# Altium footprint library Package_CSP.PcbLib: 178 footprints (part 4 of 12)
Each footprint in its own frame and in the unit in brackets; x right, y up, seen from the top. Pads: shape width x height; smd on the part's side, far side on the other; paste and mask are expansions set on the pad; w line width, h text height; cw(c..) or ccw(c..) is an arc to the next point about the centre after c.
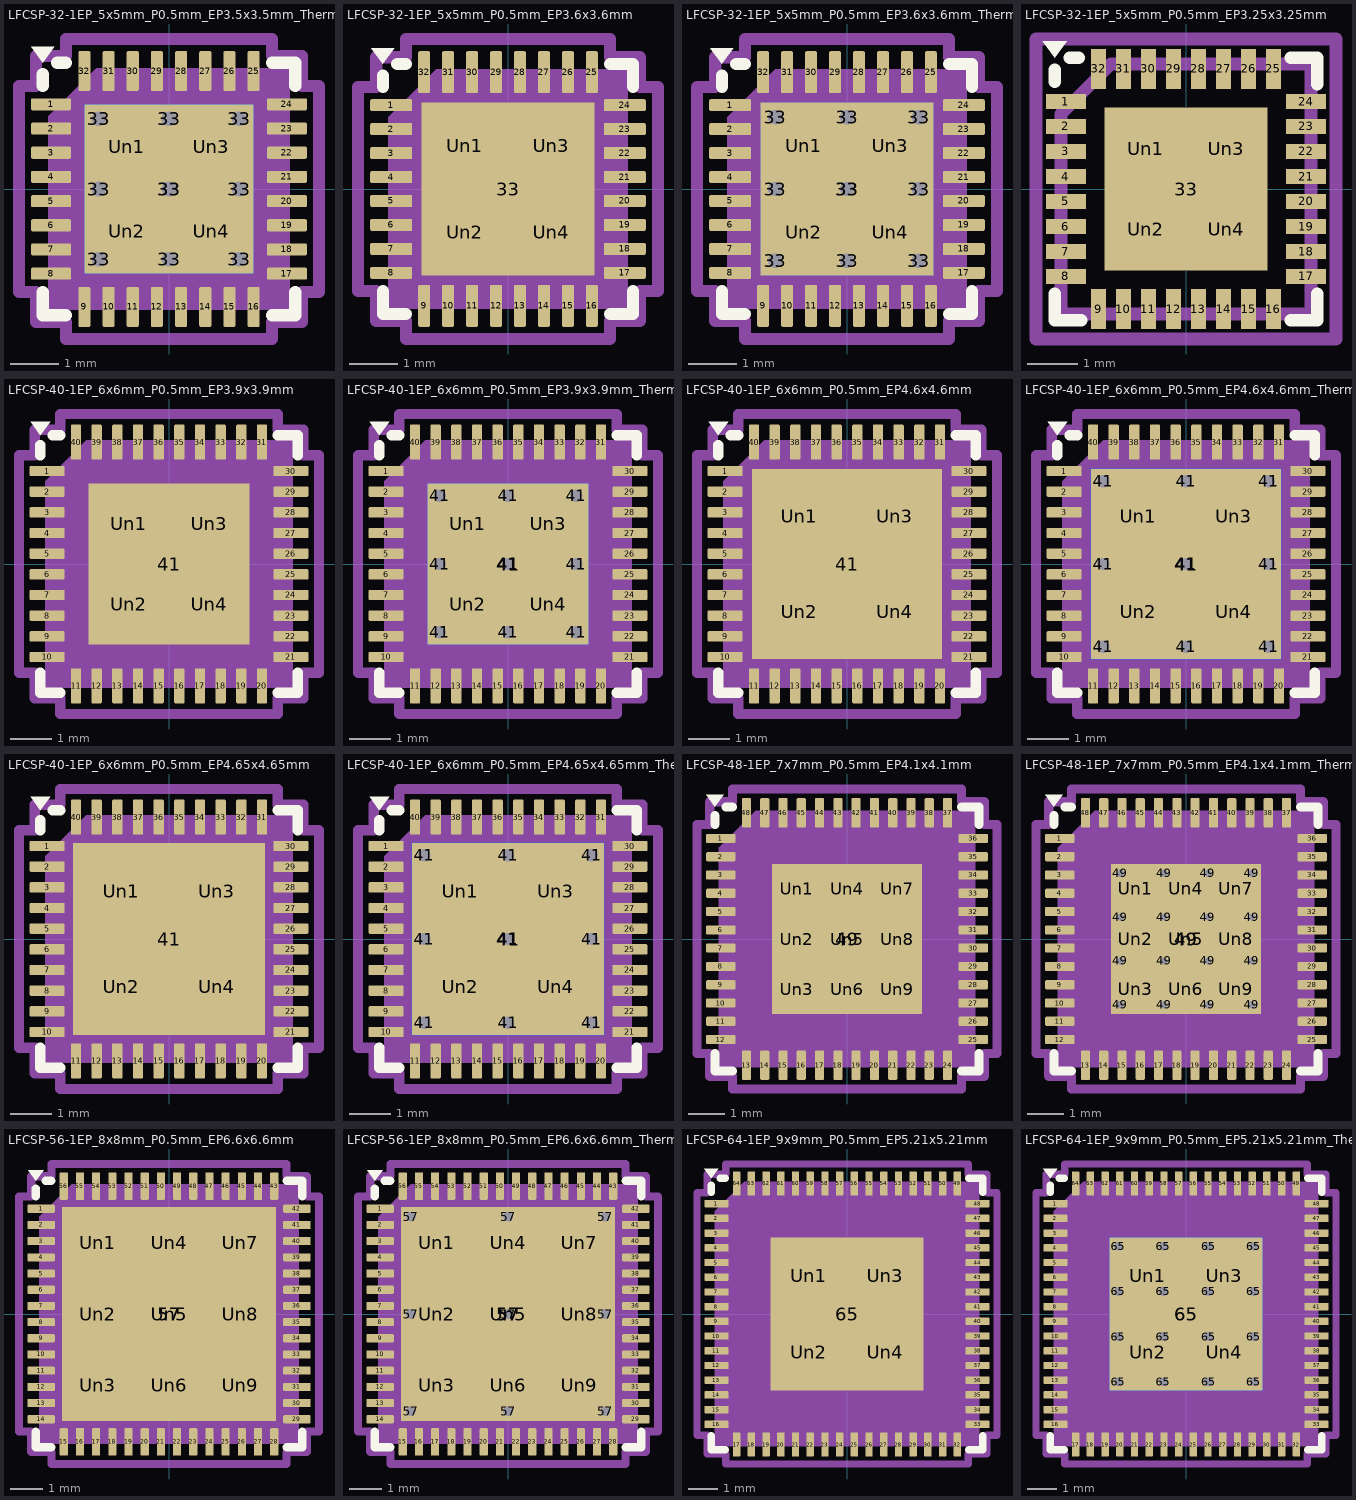
[diagram p3: the footprints below, top view; thin cyan lines are the x and y axes]

## LFCSP-32-1EP_5x5mm_P0.5mm_EP3.5x3.5mm_ThermalVias [mm]
pads (47):
  rrect25% 0.825x0.25 smd: 1(-2.438,1.75) 2(-2.438,1.25) 3(-2.438,0.75) 4(-2.438,0.25) 5(-2.438,-0.25) 6(-2.438,-0.75) 7(-2.438,-1.25) 8(-2.438,-1.75) 17(2.438,-1.75) 18(2.438,-1.25) 19(2.438,-0.75) 20(2.438,-0.25) 21(2.438,0.25) 22(2.438,0.75) 23(2.438,1.25) 24(2.438,1.75)
  rrect25% 0.25x0.825 smd: 9(-1.75,-2.438) 10(-1.25,-2.438) 11(-0.75,-2.438) 12(-0.25,-2.438) 13(0.25,-2.438) 14(0.75,-2.438) 15(1.25,-2.438) 16(1.75,-2.438) 25(1.75,2.438) 26(1.25,2.438) 27(0.75,2.438) 28(0.25,2.438) 29(-0.25,2.438) 30(-0.75,2.438) 31(-1.25,2.438) 32(-1.75,2.438)
  round 0.6 hole 0.3: 33(-1.45,-1.45) 33(-1.45,0) 33(-1.45,1.45) 33(0,-1.45) 33(0,0) 33(0,1.45) 33(1.45,-1.45) 33(1.45,0) 33(1.45,1.45)
  rect 3.5x3.5 smd: 33(0,0)
  rect 3.5x3.5 smd far side: 33(0,0)
  rrect17% 1.46x1.46 on Top Paste: Un1(-0.875,0.875) Un2(-0.875,-0.875) Un3(0.875,0.875) Un4(0.875,-0.875)
F.SilkS:
  region: -2.61,2.61 -2.85,2.94 -2.37,2.94
  lines w0.254: -2.61,-2.135 -2.61,-2.61 -2.135,-2.61 ; -2.61,2.135 -2.61,2.37 ; -2.31,2.61 -2.135,2.61 ; 2.135,-2.61 2.61,-2.61 2.61,-2.135 ; 2.135,2.61 2.61,2.61 2.61,2.135
Top Assembly:
  region: 2.5,-2.5 -2.5,-2.5 -2.5,1.5 -1.5,2.5 2.5,2.5
  text "'.Designator'" at -4.047,-0.84 h1
Top Courtyard:
  lines w0.254: -3.1,-2.13 -2.75,-2.13 -2.75,-2.75 -2.13,-2.75 -2.13,-3.1 2.13,-3.1 2.13,-2.75 2.75,-2.75 2.75,-2.13 3.1,-2.13 3.1,2.13 2.75,2.13 2.75,2.75 2.13,2.75 2.13,3.1 -2.13,3.1 -2.13,2.75 -2.75,2.75 -2.75,2.13 -3.1,2.13 -3.1,-2.13
Top Designator:
  text ".Designator" at -7.768,-0.508 h1.52

## LFCSP-32-1EP_5x5mm_P0.5mm_EP3.6x3.6mm [mm]
pads (37):
  rrect25% 0.875x0.25 smd: 1(-2.438,1.75) 2(-2.438,1.25) 3(-2.438,0.75) 4(-2.438,0.25) 5(-2.438,-0.25) 6(-2.438,-0.75) 7(-2.438,-1.25) 8(-2.438,-1.75) 17(2.438,-1.75) 18(2.438,-1.25) 19(2.438,-0.75) 20(2.438,-0.25) 21(2.438,0.25) 22(2.438,0.75) 23(2.438,1.25) 24(2.438,1.75)
  rrect25% 0.25x0.875 smd: 9(-1.75,-2.438) 10(-1.25,-2.438) 11(-0.75,-2.438) 12(-0.25,-2.438) 13(0.25,-2.438) 14(0.75,-2.438) 15(1.25,-2.438) 16(1.75,-2.438) 25(1.75,2.438) 26(1.25,2.438) 27(0.75,2.438) 28(0.25,2.438) 29(-0.25,2.438) 30(-0.75,2.438) 31(-1.25,2.438) 32(-1.75,2.438)
  rect 3.6x3.6 smd: 33(0,0)
  rrect17% 1.45x1.45 on Top Paste: Un1(-0.9,0.9) Un2(-0.9,-0.9) Un3(0.9,0.9) Un4(0.9,-0.9)
F.SilkS:
  region: -2.61,2.61 -2.85,2.94 -2.37,2.94
  lines w0.254: -2.61,-2.135 -2.61,-2.61 -2.135,-2.61 ; -2.61,2.135 -2.61,2.37 ; -2.31,2.61 -2.135,2.61 ; 2.135,-2.61 2.61,-2.61 2.61,-2.135 ; 2.135,2.61 2.61,2.61 2.61,2.135
Top Assembly:
  region: 2.5,-2.5 -2.5,-2.5 -2.5,1.5 -1.5,2.5 2.5,2.5
  text "'.Designator'" at -4.047,-0.84 h1
Top Courtyard:
  lines w0.254: -3.13,-2.13 -2.75,-2.13 -2.75,-2.75 -2.13,-2.75 -2.13,-3.13 2.13,-3.13 2.13,-2.75 2.75,-2.75 2.75,-2.13 3.13,-2.13 3.13,2.13 2.75,2.13 2.75,2.75 2.13,2.75 2.13,3.13 -2.13,3.13 -2.13,2.75 -2.75,2.75 -2.75,2.13 -3.13,2.13 -3.13,-2.13
Top Designator:
  text ".Designator" at -7.768,-0.508 h1.52

## LFCSP-32-1EP_5x5mm_P0.5mm_EP3.6x3.6mm_ThermalVias [mm]
pads (47):
  rrect25% 0.875x0.25 smd: 1(-2.438,1.75) 2(-2.438,1.25) 3(-2.438,0.75) 4(-2.438,0.25) 5(-2.438,-0.25) 6(-2.438,-0.75) 7(-2.438,-1.25) 8(-2.438,-1.75) 17(2.438,-1.75) 18(2.438,-1.25) 19(2.438,-0.75) 20(2.438,-0.25) 21(2.438,0.25) 22(2.438,0.75) 23(2.438,1.25) 24(2.438,1.75)
  rrect25% 0.25x0.875 smd: 9(-1.75,-2.438) 10(-1.25,-2.438) 11(-0.75,-2.438) 12(-0.25,-2.438) 13(0.25,-2.438) 14(0.75,-2.438) 15(1.25,-2.438) 16(1.75,-2.438) 25(1.75,2.438) 26(1.25,2.438) 27(0.75,2.438) 28(0.25,2.438) 29(-0.25,2.438) 30(-0.75,2.438) 31(-1.25,2.438) 32(-1.75,2.438)
  round 0.6 hole 0.3: 33(-1.5,-1.5) 33(-1.5,0) 33(-1.5,1.5) 33(0,-1.5) 33(0,0) 33(0,1.5) 33(1.5,-1.5) 33(1.5,0) 33(1.5,1.5)
  rect 3.6x3.6 smd: 33(0,0)
  rect 3.6x3.6 smd far side: 33(0,0)
  rrect17% 1.51x1.51 on Top Paste: Un1(-0.9,0.9) Un2(-0.9,-0.9) Un3(0.9,0.9) Un4(0.9,-0.9)
F.SilkS:
  region: -2.61,2.61 -2.85,2.94 -2.37,2.94
  lines w0.254: -2.61,-2.135 -2.61,-2.61 -2.135,-2.61 ; -2.61,2.135 -2.61,2.37 ; -2.31,2.61 -2.135,2.61 ; 2.135,-2.61 2.61,-2.61 2.61,-2.135 ; 2.135,2.61 2.61,2.61 2.61,2.135
Top Assembly:
  region: 2.5,-2.5 -2.5,-2.5 -2.5,1.5 -1.5,2.5 2.5,2.5
  text "'.Designator'" at -4.047,-0.84 h1
Top Courtyard:
  lines w0.254: -3.13,-2.13 -2.75,-2.13 -2.75,-2.75 -2.13,-2.75 -2.13,-3.13 2.13,-3.13 2.13,-2.75 2.75,-2.75 2.75,-2.13 3.13,-2.13 3.13,2.13 2.75,2.13 2.75,2.75 2.13,2.75 2.13,3.13 -2.13,3.13 -2.13,2.75 -2.75,2.75 -2.75,2.13 -3.13,2.13 -3.13,-2.13
Top Designator:
  text ".Designator" at -7.768,-0.508 h1.52

## LFCSP-32-1EP_5x5mm_P0.5mm_EP3.25x3.25mm [mm]
pads (37):
  rect 0.8x0.3 smd: 1(-2.4,1.75) 2(-2.4,1.25) 3(-2.4,0.75) 4(-2.4,0.25) 5(-2.4,-0.25) 6(-2.4,-0.75) 7(-2.4,-1.25) 8(-2.4,-1.75) 17(2.4,-1.75) 18(2.4,-1.25) 19(2.4,-0.75) 20(2.4,-0.25) 21(2.4,0.25) 22(2.4,0.75) 23(2.4,1.25) 24(2.4,1.75)
  rect 0.3x0.8 smd: 9(-1.75,-2.4) 10(-1.25,-2.4) 11(-0.75,-2.4) 12(-0.25,-2.4) 13(0.25,-2.4) 14(0.75,-2.4) 15(1.25,-2.4) 16(1.75,-2.4) 25(1.75,2.4) 26(1.25,2.4) 27(0.75,2.4) 28(0.25,2.4) 29(-0.25,2.4) 30(-0.75,2.4) 31(-1.25,2.4) 32(-1.75,2.4)
  rect 3.25x3.25 smd: 33(0,0)
  rect 1.3x1.3 on Top Paste: Un1(-0.8,0.8) Un2(-0.8,-0.8) Un3(0.8,0.8) Un4(0.8,-0.8)
F.SilkS:
  region: -2.625,2.625 -2.865,2.955 -2.385,2.955
  lines w0.254: -2.625,-2.1 -2.625,-2.625 -2.1,-2.625 ; -2.625,2.15 -2.625,2.385 ; -2.325,2.625 -2.15,2.625 ; 2.1,-2.625 2.625,-2.625 2.625,-2.1 ; 2.1,2.625 2.625,2.625 2.625,2.1
Top Assembly:
  lines w0.254: -2.5,-2.5 2.5,-2.5 2.5,2.5 -1.5,2.5 -2.5,1.5 -2.5,-2.5
  text "'.Designator'" at -4.047,-0.84 h1
Top Courtyard:
  lines w0.254: -3,-3 3,-3 3,3 -3,3 -3,-3
Top Designator:
  text ".Designator" at -7.768,-0.508 h1.52

## LFCSP-40-1EP_6x6mm_P0.5mm_EP3.9x3.9mm [mm]
pads (45):
  rrect25% 0.85x0.25 smd: 1(-2.95,2.25) 2(-2.95,1.75) 3(-2.95,1.25) 4(-2.95,0.75) 5(-2.95,0.25) 6(-2.95,-0.25) 7(-2.95,-0.75) 8(-2.95,-1.25) 9(-2.95,-1.75) 10(-2.95,-2.25) 21(2.95,-2.25) 22(2.95,-1.75) 23(2.95,-1.25) 24(2.95,-0.75) 25(2.95,-0.25) 26(2.95,0.25) 27(2.95,0.75) 28(2.95,1.25) 29(2.95,1.75) 30(2.95,2.25)
  rrect25% 0.25x0.85 smd: 11(-2.25,-2.95) 12(-1.75,-2.95) 13(-1.25,-2.95) 14(-0.75,-2.95) 15(-0.25,-2.95) 16(0.25,-2.95) 17(0.75,-2.95) 18(1.25,-2.95) 19(1.75,-2.95) 20(2.25,-2.95) 31(2.25,2.95) 32(1.75,2.95) 33(1.25,2.95) 34(0.75,2.95) 35(0.25,2.95) 36(-0.25,2.95) 37(-0.75,2.95) 38(-1.25,2.95) 39(-1.75,2.95) 40(-2.25,2.95)
  rect 3.9x3.9 smd: 41(0,0)
  rrect16% 1.57x1.57 on Top Paste: Un1(-0.975,0.975) Un2(-0.975,-0.975) Un3(0.975,0.975) Un4(0.975,-0.975)
F.SilkS:
  region: -3.11,3.11 -3.35,3.44 -2.87,3.44
  lines w0.254: -3.11,-2.635 -3.11,-3.11 -2.635,-3.11 ; -3.11,2.635 -3.11,2.87 ; -2.81,3.11 -2.635,3.11 ; 2.635,-3.11 3.11,-3.11 3.11,-2.635 ; 2.635,3.11 3.11,3.11 3.11,2.635
Top Assembly:
  region: 3,-3 -3,-3 -3,2 -2,3 3,3
  text "'.Designator'" at -4.047,-0.84 h1
Top Courtyard:
  lines w0.254: -3.63,-2.63 -3.25,-2.63 -3.25,-3.25 -2.63,-3.25 -2.63,-3.63 2.63,-3.63 2.63,-3.25 3.25,-3.25 3.25,-2.63 3.63,-2.63 3.63,2.63 3.25,2.63 3.25,3.25 2.63,3.25 2.63,3.63 -2.63,3.63 -2.63,3.25 -3.25,3.25 -3.25,2.63 -3.63,2.63 -3.63,-2.63
Top Designator:
  text ".Designator" at -7.768,-0.508 h1.52

## LFCSP-40-1EP_6x6mm_P0.5mm_EP3.9x3.9mm_ThermalVias [mm]
pads (55):
  rrect25% 0.85x0.25 smd: 1(-2.95,2.25) 2(-2.95,1.75) 3(-2.95,1.25) 4(-2.95,0.75) 5(-2.95,0.25) 6(-2.95,-0.25) 7(-2.95,-0.75) 8(-2.95,-1.25) 9(-2.95,-1.75) 10(-2.95,-2.25) 21(2.95,-2.25) 22(2.95,-1.75) 23(2.95,-1.25) 24(2.95,-0.75) 25(2.95,-0.25) 26(2.95,0.25) 27(2.95,0.75) 28(2.95,1.25) 29(2.95,1.75) 30(2.95,2.25)
  rrect25% 0.25x0.85 smd: 11(-2.25,-2.95) 12(-1.75,-2.95) 13(-1.25,-2.95) 14(-0.75,-2.95) 15(-0.25,-2.95) 16(0.25,-2.95) 17(0.75,-2.95) 18(1.25,-2.95) 19(1.75,-2.95) 20(2.25,-2.95) 31(2.25,2.95) 32(1.75,2.95) 33(1.25,2.95) 34(0.75,2.95) 35(0.25,2.95) 36(-0.25,2.95) 37(-0.75,2.95) 38(-1.25,2.95) 39(-1.75,2.95) 40(-2.25,2.95)
  round 0.6 hole 0.3: 41(-1.65,-1.65) 41(-1.65,0) 41(-1.65,1.65) 41(0,-1.65) 41(0,0) 41(0,1.65) 41(1.65,-1.65) 41(1.65,0) 41(1.65,1.65)
  rect 3.9x3.9 smd: 41(0,0)
  rect 3.9x3.9 smd far side: 41(0,0)
  rrect15% 1.63x1.63 on Top Paste: Un1(-0.975,0.975) Un2(-0.975,-0.975) Un3(0.975,0.975) Un4(0.975,-0.975)
F.SilkS:
  region: -3.11,3.11 -3.35,3.44 -2.87,3.44
  lines w0.254: -3.11,-2.635 -3.11,-3.11 -2.635,-3.11 ; -3.11,2.635 -3.11,2.87 ; -2.81,3.11 -2.635,3.11 ; 2.635,-3.11 3.11,-3.11 3.11,-2.635 ; 2.635,3.11 3.11,3.11 3.11,2.635
Top Assembly:
  region: 3,-3 -3,-3 -3,2 -2,3 3,3
  text "'.Designator'" at -4.047,-0.84 h1
Top Courtyard:
  lines w0.254: -3.63,-2.63 -3.25,-2.63 -3.25,-3.25 -2.63,-3.25 -2.63,-3.63 2.63,-3.63 2.63,-3.25 3.25,-3.25 3.25,-2.63 3.63,-2.63 3.63,2.63 3.25,2.63 3.25,3.25 2.63,3.25 2.63,3.63 -2.63,3.63 -2.63,3.25 -3.25,3.25 -3.25,2.63 -3.63,2.63 -3.63,-2.63
Top Designator:
  text ".Designator" at -7.768,-0.508 h1.52

## LFCSP-40-1EP_6x6mm_P0.5mm_EP4.6x4.6mm [mm]
pads (45):
  rrect25% 0.85x0.25 smd: 1(-2.95,2.25) 2(-2.95,1.75) 3(-2.95,1.25) 4(-2.95,0.75) 5(-2.95,0.25) 6(-2.95,-0.25) 7(-2.95,-0.75) 8(-2.95,-1.25) 9(-2.95,-1.75) 10(-2.95,-2.25) 21(2.95,-2.25) 22(2.95,-1.75) 23(2.95,-1.25) 24(2.95,-0.75) 25(2.95,-0.25) 26(2.95,0.25) 27(2.95,0.75) 28(2.95,1.25) 29(2.95,1.75) 30(2.95,2.25)
  rrect25% 0.25x0.85 smd: 11(-2.25,-2.95) 12(-1.75,-2.95) 13(-1.25,-2.95) 14(-0.75,-2.95) 15(-0.25,-2.95) 16(0.25,-2.95) 17(0.75,-2.95) 18(1.25,-2.95) 19(1.75,-2.95) 20(2.25,-2.95) 31(2.25,2.95) 32(1.75,2.95) 33(1.25,2.95) 34(0.75,2.95) 35(0.25,2.95) 36(-0.25,2.95) 37(-0.75,2.95) 38(-1.25,2.95) 39(-1.75,2.95) 40(-2.25,2.95)
  rect 4.6x4.6 smd: 41(0,0)
  rrect14% 1.85x1.85 on Top Paste: Un1(-1.15,1.15) Un2(-1.15,-1.15) Un3(1.15,1.15) Un4(1.15,-1.15)
F.SilkS:
  region: -3.11,3.11 -3.35,3.44 -2.87,3.44
  lines w0.254: -3.11,-2.635 -3.11,-3.11 -2.635,-3.11 ; -3.11,2.635 -3.11,2.87 ; -2.81,3.11 -2.635,3.11 ; 2.635,-3.11 3.11,-3.11 3.11,-2.635 ; 2.635,3.11 3.11,3.11 3.11,2.635
Top Assembly:
  region: 3,-3 -3,-3 -3,2 -2,3 3,3
  text "'.Designator'" at -4.047,-0.84 h1
Top Courtyard:
  lines w0.254: -3.63,-2.63 -3.25,-2.63 -3.25,-3.25 -2.63,-3.25 -2.63,-3.63 2.63,-3.63 2.63,-3.25 3.25,-3.25 3.25,-2.63 3.63,-2.63 3.63,2.63 3.25,2.63 3.25,3.25 2.63,3.25 2.63,3.63 -2.63,3.63 -2.63,3.25 -3.25,3.25 -3.25,2.63 -3.63,2.63 -3.63,-2.63
Top Designator:
  text ".Designator" at -7.768,-0.508 h1.52

## LFCSP-40-1EP_6x6mm_P0.5mm_EP4.6x4.6mm_ThermalVias [mm]
pads (55):
  rrect25% 0.85x0.25 smd: 1(-2.95,2.25) 2(-2.95,1.75) 3(-2.95,1.25) 4(-2.95,0.75) 5(-2.95,0.25) 6(-2.95,-0.25) 7(-2.95,-0.75) 8(-2.95,-1.25) 9(-2.95,-1.75) 10(-2.95,-2.25) 21(2.95,-2.25) 22(2.95,-1.75) 23(2.95,-1.25) 24(2.95,-0.75) 25(2.95,-0.25) 26(2.95,0.25) 27(2.95,0.75) 28(2.95,1.25) 29(2.95,1.75) 30(2.95,2.25)
  rrect25% 0.25x0.85 smd: 11(-2.25,-2.95) 12(-1.75,-2.95) 13(-1.25,-2.95) 14(-0.75,-2.95) 15(-0.25,-2.95) 16(0.25,-2.95) 17(0.75,-2.95) 18(1.25,-2.95) 19(1.75,-2.95) 20(2.25,-2.95) 31(2.25,2.95) 32(1.75,2.95) 33(1.25,2.95) 34(0.75,2.95) 35(0.25,2.95) 36(-0.25,2.95) 37(-0.75,2.95) 38(-1.25,2.95) 39(-1.75,2.95) 40(-2.25,2.95)
  round 0.6 hole 0.3: 41(-2,-2) 41(-2,0) 41(-2,2) 41(0,-2) 41(0,0) 41(0,2) 41(2,-2) 41(2,0) 41(2,2)
  rect 4.6x4.6 smd: 41(0,0)
  rect 4.6x4.6 smd far side: 41(0,0)
  rrect13% 1.92x1.92 on Top Paste: Un1(-1.15,1.15) Un2(-1.15,-1.15) Un3(1.15,1.15) Un4(1.15,-1.15)
F.SilkS:
  region: -3.11,3.11 -3.35,3.44 -2.87,3.44
  lines w0.254: -3.11,-2.635 -3.11,-3.11 -2.635,-3.11 ; -3.11,2.635 -3.11,2.87 ; -2.81,3.11 -2.635,3.11 ; 2.635,-3.11 3.11,-3.11 3.11,-2.635 ; 2.635,3.11 3.11,3.11 3.11,2.635
Top Assembly:
  region: 3,-3 -3,-3 -3,2 -2,3 3,3
  text "'.Designator'" at -4.047,-0.84 h1
Top Courtyard:
  lines w0.254: -3.63,-2.63 -3.25,-2.63 -3.25,-3.25 -2.63,-3.25 -2.63,-3.63 2.63,-3.63 2.63,-3.25 3.25,-3.25 3.25,-2.63 3.63,-2.63 3.63,2.63 3.25,2.63 3.25,3.25 2.63,3.25 2.63,3.63 -2.63,3.63 -2.63,3.25 -3.25,3.25 -3.25,2.63 -3.63,2.63 -3.63,-2.63
Top Designator:
  text ".Designator" at -7.768,-0.508 h1.52

## LFCSP-40-1EP_6x6mm_P0.5mm_EP4.65x4.65mm [mm]
pads (45):
  rrect25% 0.85x0.25 smd: 1(-2.95,2.25) 2(-2.95,1.75) 3(-2.95,1.25) 4(-2.95,0.75) 5(-2.95,0.25) 6(-2.95,-0.25) 7(-2.95,-0.75) 8(-2.95,-1.25) 9(-2.95,-1.75) 10(-2.95,-2.25) 21(2.95,-2.25) 22(2.95,-1.75) 23(2.95,-1.25) 24(2.95,-0.75) 25(2.95,-0.25) 26(2.95,0.25) 27(2.95,0.75) 28(2.95,1.25) 29(2.95,1.75) 30(2.95,2.25)
  rrect25% 0.25x0.85 smd: 11(-2.25,-2.95) 12(-1.75,-2.95) 13(-1.25,-2.95) 14(-0.75,-2.95) 15(-0.25,-2.95) 16(0.25,-2.95) 17(0.75,-2.95) 18(1.25,-2.95) 19(1.75,-2.95) 20(2.25,-2.95) 31(2.25,2.95) 32(1.75,2.95) 33(1.25,2.95) 34(0.75,2.95) 35(0.25,2.95) 36(-0.25,2.95) 37(-0.75,2.95) 38(-1.25,2.95) 39(-1.75,2.95) 40(-2.25,2.95)
  rect 4.65x4.65 smd: 41(0,0)
  rrect13% 1.87x1.87 on Top Paste: Un1(-1.16,1.16) Un2(-1.16,-1.16) Un3(1.16,1.16) Un4(1.16,-1.16)
F.SilkS:
  region: -3.11,3.11 -3.35,3.44 -2.87,3.44
  lines w0.254: -3.11,-2.635 -3.11,-3.11 -2.635,-3.11 ; -3.11,2.635 -3.11,2.87 ; -2.81,3.11 -2.635,3.11 ; 2.635,-3.11 3.11,-3.11 3.11,-2.635 ; 2.635,3.11 3.11,3.11 3.11,2.635
Top Assembly:
  region: 3,-3 -3,-3 -3,2 -2,3 3,3
  text "'.Designator'" at -4.047,-0.84 h1
Top Courtyard:
  lines w0.254: -3.63,-2.63 -3.25,-2.63 -3.25,-3.25 -2.63,-3.25 -2.63,-3.63 2.63,-3.63 2.63,-3.25 3.25,-3.25 3.25,-2.63 3.63,-2.63 3.63,2.63 3.25,2.63 3.25,3.25 2.63,3.25 2.63,3.63 -2.63,3.63 -2.63,3.25 -3.25,3.25 -3.25,2.63 -3.63,2.63 -3.63,-2.63
Top Designator:
  text ".Designator" at -7.768,-0.508 h1.52

## LFCSP-40-1EP_6x6mm_P0.5mm_EP4.65x4.65mm_ThermalVias [mm]
pads (55):
  rrect25% 0.85x0.25 smd: 1(-2.95,2.25) 2(-2.95,1.75) 3(-2.95,1.25) 4(-2.95,0.75) 5(-2.95,0.25) 6(-2.95,-0.25) 7(-2.95,-0.75) 8(-2.95,-1.25) 9(-2.95,-1.75) 10(-2.95,-2.25) 21(2.95,-2.25) 22(2.95,-1.75) 23(2.95,-1.25) 24(2.95,-0.75) 25(2.95,-0.25) 26(2.95,0.25) 27(2.95,0.75) 28(2.95,1.25) 29(2.95,1.75) 30(2.95,2.25)
  rrect25% 0.25x0.85 smd: 11(-2.25,-2.95) 12(-1.75,-2.95) 13(-1.25,-2.95) 14(-0.75,-2.95) 15(-0.25,-2.95) 16(0.25,-2.95) 17(0.75,-2.95) 18(1.25,-2.95) 19(1.75,-2.95) 20(2.25,-2.95) 31(2.25,2.95) 32(1.75,2.95) 33(1.25,2.95) 34(0.75,2.95) 35(0.25,2.95) 36(-0.25,2.95) 37(-0.75,2.95) 38(-1.25,2.95) 39(-1.75,2.95) 40(-2.25,2.95)
  round 0.6 hole 0.3: 41(-2.025,-2.025) 41(-2.025,0) 41(-2.025,2.025) 41(0,-2.025) 41(0,0) 41(0,2.025) 41(2.025,-2.025) 41(2.025,0) 41(2.025,2.025)
  rect 4.65x4.65 smd: 41(0,0)
  rect 4.65x4.65 smd far side: 41(0,0)
  rrect13% 1.95x1.95 on Top Paste: Un1(-1.16,1.16) Un2(-1.16,-1.16) Un3(1.16,1.16) Un4(1.16,-1.16)
F.SilkS:
  region: -3.11,3.11 -3.35,3.44 -2.87,3.44
  lines w0.254: -3.11,-2.635 -3.11,-3.11 -2.635,-3.11 ; -3.11,2.635 -3.11,2.87 ; -2.81,3.11 -2.635,3.11 ; 2.635,-3.11 3.11,-3.11 3.11,-2.635 ; 2.635,3.11 3.11,3.11 3.11,2.635
Top Assembly:
  region: 3,-3 -3,-3 -3,2 -2,3 3,3
  text "'.Designator'" at -4.047,-0.84 h1
Top Courtyard:
  lines w0.254: -3.63,-2.63 -3.25,-2.63 -3.25,-3.25 -2.63,-3.25 -2.63,-3.63 2.63,-3.63 2.63,-3.25 3.25,-3.25 3.25,-2.63 3.63,-2.63 3.63,2.63 3.25,2.63 3.25,3.25 2.63,3.25 2.63,3.63 -2.63,3.63 -2.63,3.25 -3.25,3.25 -3.25,2.63 -3.63,2.63 -3.63,-2.63
Top Designator:
  text ".Designator" at -7.768,-0.508 h1.52

## LFCSP-48-1EP_7x7mm_P0.5mm_EP4.1x4.1mm [mm]
pads (58):
  rrect25% 0.8x0.25 smd: 1(-3.45,2.75) 2(-3.45,2.25) 3(-3.45,1.75) 4(-3.45,1.25) 5(-3.45,0.75) 6(-3.45,0.25) 7(-3.45,-0.25) 8(-3.45,-0.75) 9(-3.45,-1.25) 10(-3.45,-1.75) 11(-3.45,-2.25) 12(-3.45,-2.75) 25(3.45,-2.75) 26(3.45,-2.25) 27(3.45,-1.75) 28(3.45,-1.25) 29(3.45,-0.75) 30(3.45,-0.25) 31(3.45,0.25) 32(3.45,0.75) 33(3.45,1.25) 34(3.45,1.75) 35(3.45,2.25) 36(3.45,2.75)
  rrect25% 0.25x0.8 smd: 13(-2.75,-3.45) 14(-2.25,-3.45) 15(-1.75,-3.45) 16(-1.25,-3.45) 17(-0.75,-3.45) 18(-0.25,-3.45) 19(0.25,-3.45) 20(0.75,-3.45) 21(1.25,-3.45) 22(1.75,-3.45) 23(2.25,-3.45) 24(2.75,-3.45) 37(2.75,3.45) 38(2.25,3.45) 39(1.75,3.45) 40(1.25,3.45) 41(0.75,3.45) 42(0.25,3.45) 43(-0.25,3.45) 44(-0.75,3.45) 45(-1.25,3.45) 46(-1.75,3.45) 47(-2.25,3.45) 48(-2.75,3.45)
  rect 4.1x4.1 smd: 49(0,0)
  rrect23% 1.1x1.1 on Top Paste: Un1(-1.37,1.37) Un2(-1.37,0) Un3(-1.37,-1.37) Un4(0,1.37) Un5(0,0) Un6(0,-1.37) Un7(1.37,1.37) Un8(1.37,0) Un9(1.37,-1.37)
F.SilkS:
  region: -3.61,3.61 -3.85,3.94 -3.37,3.94
  lines w0.254: -3.61,-3.135 -3.61,-3.61 -3.135,-3.61 ; -3.61,3.135 -3.61,3.37 ; -3.31,3.61 -3.135,3.61 ; 3.135,-3.61 3.61,-3.61 3.61,-3.135 ; 3.135,3.61 3.61,3.61 3.61,3.135
Top Assembly:
  region: 3.5,-3.5 -3.5,-3.5 -3.5,2.5 -2.5,3.5 3.5,3.5
  text "'.Designator'" at -4.047,-0.84 h1
Top Courtyard:
  lines w0.254: -4.1,-3.13 -3.75,-3.13 -3.75,-3.75 -3.13,-3.75 -3.13,-4.1 3.13,-4.1 3.13,-3.75 3.75,-3.75 3.75,-3.13 4.1,-3.13 4.1,3.13 3.75,3.13 3.75,3.75 3.13,3.75 3.13,4.1 -3.13,4.1 -3.13,3.75 -3.75,3.75 -3.75,3.13 -4.1,3.13 -4.1,-3.13
Top Designator:
  text ".Designator" at -7.618,-0.508 h1.52

## LFCSP-48-1EP_7x7mm_P0.5mm_EP4.1x4.1mm_ThermalVias [mm]
pads (75):
  rrect25% 0.8x0.25 smd: 1(-3.45,2.75) 2(-3.45,2.25) 3(-3.45,1.75) 4(-3.45,1.25) 5(-3.45,0.75) 6(-3.45,0.25) 7(-3.45,-0.25) 8(-3.45,-0.75) 9(-3.45,-1.25) 10(-3.45,-1.75) 11(-3.45,-2.25) 12(-3.45,-2.75) 25(3.45,-2.75) 26(3.45,-2.25) 27(3.45,-1.75) 28(3.45,-1.25) 29(3.45,-0.75) 30(3.45,-0.25) 31(3.45,0.25) 32(3.45,0.75) 33(3.45,1.25) 34(3.45,1.75) 35(3.45,2.25) 36(3.45,2.75)
  rrect25% 0.25x0.8 smd: 13(-2.75,-3.45) 14(-2.25,-3.45) 15(-1.75,-3.45) 16(-1.25,-3.45) 17(-0.75,-3.45) 18(-0.25,-3.45) 19(0.25,-3.45) 20(0.75,-3.45) 21(1.25,-3.45) 22(1.75,-3.45) 23(2.25,-3.45) 24(2.75,-3.45) 37(2.75,3.45) 38(2.25,3.45) 39(1.75,3.45) 40(1.25,3.45) 41(0.75,3.45) 42(0.25,3.45) 43(-0.25,3.45) 44(-0.75,3.45) 45(-1.25,3.45) 46(-1.75,3.45) 47(-2.25,3.45) 48(-2.75,3.45)
  round 0.5 hole 0.2: 49(-1.8,-1.8) 49(-1.8,-0.6) 49(-1.8,0.6) 49(-1.8,1.8) 49(-0.6,-1.8) 49(-0.6,-0.6) 49(-0.6,0.6) 49(-0.6,1.8) 49(0.6,-1.8) 49(0.6,-0.6) 49(0.6,0.6) 49(0.6,1.8) 49(1.8,-1.8) 49(1.8,-0.6) 49(1.8,0.6) 49(1.8,1.8)
  rect 4.1x4.1 smd: 49(0,0)
  rect 4.1x4.1 smd far side: 49(0,0)
  rrect22% 1.14x1.14 on Top Paste: Un1(-1.37,1.37) Un2(-1.37,0) Un3(-1.37,-1.37) Un4(0,1.37) Un5(0,0) Un6(0,-1.37) Un7(1.37,1.37) Un8(1.37,0) Un9(1.37,-1.37)
F.SilkS:
  region: -3.61,3.61 -3.85,3.94 -3.37,3.94
  lines w0.254: -3.61,-3.135 -3.61,-3.61 -3.135,-3.61 ; -3.61,3.135 -3.61,3.37 ; -3.31,3.61 -3.135,3.61 ; 3.135,-3.61 3.61,-3.61 3.61,-3.135 ; 3.135,3.61 3.61,3.61 3.61,3.135
Top Assembly:
  region: 3.5,-3.5 -3.5,-3.5 -3.5,2.5 -2.5,3.5 3.5,3.5
  text "'.Designator'" at -4.047,-0.84 h1
Top Courtyard:
  lines w0.254: -4.1,-3.13 -3.75,-3.13 -3.75,-3.75 -3.13,-3.75 -3.13,-4.1 3.13,-4.1 3.13,-3.75 3.75,-3.75 3.75,-3.13 4.1,-3.13 4.1,3.13 3.75,3.13 3.75,3.75 3.13,3.75 3.13,4.1 -3.13,4.1 -3.13,3.75 -3.75,3.75 -3.75,3.13 -4.1,3.13 -4.1,-3.13
Top Designator:
  text ".Designator" at -7.618,-0.508 h1.52

## LFCSP-56-1EP_8x8mm_P0.5mm_EP6.6x6.6mm [mm]
pads (66):
  rrect25% 0.85x0.25 smd: 1(-3.95,3.25) 2(-3.95,2.75) 3(-3.95,2.25) 4(-3.95,1.75) 5(-3.95,1.25) 6(-3.95,0.75) 7(-3.95,0.25) 8(-3.95,-0.25) 9(-3.95,-0.75) 10(-3.95,-1.25) 11(-3.95,-1.75) 12(-3.95,-2.25) 13(-3.95,-2.75) 14(-3.95,-3.25) 29(3.95,-3.25) 30(3.95,-2.75) 31(3.95,-2.25) 32(3.95,-1.75) 33(3.95,-1.25) 34(3.95,-0.75) 35(3.95,-0.25) 36(3.95,0.25) 37(3.95,0.75) 38(3.95,1.25) 39(3.95,1.75) 40(3.95,2.25) 41(3.95,2.75) 42(3.95,3.25)
  rrect25% 0.25x0.85 smd: 15(-3.25,-3.95) 16(-2.75,-3.95) 17(-2.25,-3.95) 18(-1.75,-3.95) 19(-1.25,-3.95) 20(-0.75,-3.95) 21(-0.25,-3.95) 22(0.25,-3.95) 23(0.75,-3.95) 24(1.25,-3.95) 25(1.75,-3.95) 26(2.25,-3.95) 27(2.75,-3.95) 28(3.25,-3.95) 43(3.25,3.95) 44(2.75,3.95) 45(2.25,3.95) 46(1.75,3.95) 47(1.25,3.95) 48(0.75,3.95) 49(0.25,3.95) 50(-0.25,3.95) 51(-0.75,3.95) 52(-1.25,3.95) 53(-1.75,3.95) 54(-2.25,3.95) 55(-2.75,3.95) 56(-3.25,3.95)
  rect 6.6x6.6 smd: 57(0,0)
  rrect14% 1.77x1.77 on Top Paste: Un1(-2.2,2.2) Un2(-2.2,0) Un3(-2.2,-2.2) Un4(0,2.2) Un5(0,0) Un6(0,-2.2) Un7(2.2,2.2) Un8(2.2,0) Un9(2.2,-2.2)
F.SilkS:
  region: -4.11,4.11 -4.35,4.44 -3.87,4.44
  lines w0.254: -4.11,-3.635 -4.11,-4.11 -3.635,-4.11 ; -4.11,3.635 -4.11,3.87 ; -3.81,4.11 -3.635,4.11 ; 3.635,-4.11 4.11,-4.11 4.11,-3.635 ; 3.635,4.11 4.11,4.11 4.11,3.635
Top Assembly:
  region: 4,-4 -4,-4 -4,3 -3,4 4,4
  text "'.Designator'" at -4.047,-0.84 h1
Top Courtyard:
  lines w0.254: -4.63,-3.63 -4.25,-3.63 -4.25,-4.25 -3.63,-4.25 -3.63,-4.63 3.63,-4.63 3.63,-4.25 4.25,-4.25 4.25,-3.63 4.63,-3.63 4.63,3.63 4.25,3.63 4.25,4.25 3.63,4.25 3.63,4.63 -3.63,4.63 -3.63,4.25 -4.25,4.25 -4.25,3.63 -4.63,3.63 -4.63,-3.63
Top Designator:
  text ".Designator" at -7.618,-0.508 h1.52

## LFCSP-56-1EP_8x8mm_P0.5mm_EP6.6x6.6mm_ThermalVias [mm]
pads (76):
  rrect25% 0.85x0.25 smd: 1(-3.95,3.25) 2(-3.95,2.75) 3(-3.95,2.25) 4(-3.95,1.75) 5(-3.95,1.25) 6(-3.95,0.75) 7(-3.95,0.25) 8(-3.95,-0.25) 9(-3.95,-0.75) 10(-3.95,-1.25) 11(-3.95,-1.75) 12(-3.95,-2.25) 13(-3.95,-2.75) 14(-3.95,-3.25) 29(3.95,-3.25) 30(3.95,-2.75) 31(3.95,-2.25) 32(3.95,-1.75) 33(3.95,-1.25) 34(3.95,-0.75) 35(3.95,-0.25) 36(3.95,0.25) 37(3.95,0.75) 38(3.95,1.25) 39(3.95,1.75) 40(3.95,2.25) 41(3.95,2.75) 42(3.95,3.25)
  rrect25% 0.25x0.85 smd: 15(-3.25,-3.95) 16(-2.75,-3.95) 17(-2.25,-3.95) 18(-1.75,-3.95) 19(-1.25,-3.95) 20(-0.75,-3.95) 21(-0.25,-3.95) 22(0.25,-3.95) 23(0.75,-3.95) 24(1.25,-3.95) 25(1.75,-3.95) 26(2.25,-3.95) 27(2.75,-3.95) 28(3.25,-3.95) 43(3.25,3.95) 44(2.75,3.95) 45(2.25,3.95) 46(1.75,3.95) 47(1.25,3.95) 48(0.75,3.95) 49(0.25,3.95) 50(-0.25,3.95) 51(-0.75,3.95) 52(-1.25,3.95) 53(-1.75,3.95) 54(-2.25,3.95) 55(-2.75,3.95) 56(-3.25,3.95)
  round 0.6 hole 0.3: 57(-3,-3) 57(-3,0) 57(-3,3) 57(0,-3) 57(0,0) 57(0,3) 57(3,-3) 57(3,0) 57(3,3)
  rect 6.6x6.6 smd: 57(0,0)
  rect 6.6x6.6 smd far side: 57(0,0)
  rrect13% 1.91x1.91 on Top Paste: Un1(-2.2,2.2) Un2(-2.2,0) Un3(-2.2,-2.2) Un4(0,2.2) Un5(0,0) Un6(0,-2.2) Un7(2.2,2.2) Un8(2.2,0) Un9(2.2,-2.2)
F.SilkS:
  region: -4.11,4.11 -4.35,4.44 -3.87,4.44
  lines w0.254: -4.11,-3.635 -4.11,-4.11 -3.635,-4.11 ; -4.11,3.635 -4.11,3.87 ; -3.81,4.11 -3.635,4.11 ; 3.635,-4.11 4.11,-4.11 4.11,-3.635 ; 3.635,4.11 4.11,4.11 4.11,3.635
Top Assembly:
  region: 4,-4 -4,-4 -4,3 -3,4 4,4
  text "'.Designator'" at -4.047,-0.84 h1
Top Courtyard:
  lines w0.254: -4.63,-3.63 -4.25,-3.63 -4.25,-4.25 -3.63,-4.25 -3.63,-4.63 3.63,-4.63 3.63,-4.25 4.25,-4.25 4.25,-3.63 4.63,-3.63 4.63,3.63 4.25,3.63 4.25,4.25 3.63,4.25 3.63,4.63 -3.63,4.63 -3.63,4.25 -4.25,4.25 -4.25,3.63 -4.63,3.63 -4.63,-3.63
Top Designator:
  text ".Designator" at -7.618,-0.508 h1.52

## LFCSP-64-1EP_9x9mm_P0.5mm_EP5.21x5.21mm [mm]
pads (69):
  rrect25% 0.825x0.25 smd: 1(-4.437,3.75) 2(-4.437,3.25) 3(-4.437,2.75) 4(-4.437,2.25) 5(-4.437,1.75) 6(-4.437,1.25) 7(-4.437,0.75) 8(-4.437,0.25) 9(-4.437,-0.25) 10(-4.437,-0.75) 11(-4.437,-1.25) 12(-4.437,-1.75) 13(-4.437,-2.25) 14(-4.437,-2.75) 15(-4.437,-3.25) 16(-4.437,-3.75) 33(4.437,-3.75) 34(4.437,-3.25) 35(4.437,-2.75) 36(4.437,-2.25) 37(4.437,-1.75) 38(4.437,-1.25) 39(4.437,-0.75) 40(4.437,-0.25) 41(4.437,0.25) 42(4.437,0.75) 43(4.437,1.25) 44(4.437,1.75) 45(4.437,2.25) 46(4.437,2.75) 47(4.437,3.25) 48(4.437,3.75)
  rrect25% 0.25x0.825 smd: 17(-3.75,-4.437) 18(-3.25,-4.437) 19(-2.75,-4.437) 20(-2.25,-4.437) 21(-1.75,-4.437) 22(-1.25,-4.437) 23(-0.75,-4.437) 24(-0.25,-4.437) 25(0.25,-4.437) 26(0.75,-4.437) 27(1.25,-4.437) 28(1.75,-4.437) 29(2.25,-4.437) 30(2.75,-4.437) 31(3.25,-4.437) 32(3.75,-4.437) 49(3.75,4.437) 50(3.25,4.437) 51(2.75,4.437) 52(2.25,4.437) 53(1.75,4.437) 54(1.25,4.437) 55(0.75,4.437) 56(0.25,4.437) 57(-0.25,4.437) 58(-0.75,4.437) 59(-1.25,4.437) 60(-1.75,4.437) 61(-2.25,4.437) 62(-2.75,4.437) 63(-3.25,4.437) 64(-3.75,4.437)
  rect 5.21x5.21 smd: 65(0,0)
  rrect12% 2.1x2.1 on Top Paste: Un1(-1.3,1.3) Un2(-1.3,-1.3) Un3(1.3,1.3) Un4(1.3,-1.3)
F.SilkS:
  region: -4.61,4.61 -4.85,4.94 -4.37,4.94
  lines w0.254: -4.61,-4.135 -4.61,-4.61 -4.135,-4.61 ; -4.61,4.135 -4.61,4.37 ; -4.31,4.61 -4.135,4.61 ; 4.135,-4.61 4.61,-4.61 4.61,-4.135 ; 4.135,4.61 4.61,4.61 4.61,4.135
Top Assembly:
  region: 4.5,-4.5 -4.5,-4.5 -4.5,3.5 -3.5,4.5 4.5,4.5
  text "'.Designator'" at -4.047,-0.84 h1
Top Courtyard:
  lines w0.254: -5.1,-4.13 -4.75,-4.13 -4.75,-4.75 -4.13,-4.75 -4.13,-5.1 4.13,-5.1 4.13,-4.75 4.75,-4.75 4.75,-4.13 5.1,-4.13 5.1,4.13 4.75,4.13 4.75,4.75 4.13,4.75 4.13,5.1 -4.13,5.1 -4.13,4.75 -4.75,4.75 -4.75,4.13 -5.1,4.13 -5.1,-4.13
Top Designator:
  text ".Designator" at -7.618,-0.508 h1.52

## LFCSP-64-1EP_9x9mm_P0.5mm_EP5.21x5.21mm_ThermalVias [mm]
pads (86):
  rrect25% 0.825x0.25 smd: 1(-4.437,3.75) 2(-4.437,3.25) 3(-4.437,2.75) 4(-4.437,2.25) 5(-4.437,1.75) 6(-4.437,1.25) 7(-4.437,0.75) 8(-4.437,0.25) 9(-4.437,-0.25) 10(-4.437,-0.75) 11(-4.437,-1.25) 12(-4.437,-1.75) 13(-4.437,-2.25) 14(-4.437,-2.75) 15(-4.437,-3.25) 16(-4.437,-3.75) 33(4.437,-3.75) 34(4.437,-3.25) 35(4.437,-2.75) 36(4.437,-2.25) 37(4.437,-1.75) 38(4.437,-1.25) 39(4.437,-0.75) 40(4.437,-0.25) 41(4.437,0.25) 42(4.437,0.75) 43(4.437,1.25) 44(4.437,1.75) 45(4.437,2.25) 46(4.437,2.75) 47(4.437,3.25) 48(4.437,3.75)
  rrect25% 0.25x0.825 smd: 17(-3.75,-4.437) 18(-3.25,-4.437) 19(-2.75,-4.437) 20(-2.25,-4.437) 21(-1.75,-4.437) 22(-1.25,-4.437) 23(-0.75,-4.437) 24(-0.25,-4.437) 25(0.25,-4.437) 26(0.75,-4.437) 27(1.25,-4.437) 28(1.75,-4.437) 29(2.25,-4.437) 30(2.75,-4.437) 31(3.25,-4.437) 32(3.75,-4.437) 49(3.75,4.437) 50(3.25,4.437) 51(2.75,4.437) 52(2.25,4.437) 53(1.75,4.437) 54(1.25,4.437) 55(0.75,4.437) 56(0.25,4.437) 57(-0.25,4.437) 58(-0.75,4.437) 59(-1.25,4.437) 60(-1.75,4.437) 61(-2.25,4.437) 62(-2.75,4.437) 63(-3.25,4.437) 64(-3.75,4.437)
  round 0.6 hole 0.3: 65(-2.305,-2.305) 65(-2.305,-0.768) 65(-2.305,0.768) 65(-2.305,2.305) 65(-0.768,-2.305) 65(-0.768,-0.768) 65(-0.768,0.768) 65(-0.768,2.305) 65(0.768,-2.305) 65(0.768,-0.768) 65(0.768,0.768) 65(0.768,2.305) 65(2.305,-2.305) 65(2.305,-0.768) 65(2.305,0.768) 65(2.305,2.305)
  rect 5.21x5.21 smd: 65(0,0)
  rect 5.21x5.21 smd far side: 65(0,0)
  rrect11% 2.26x2.26 on Top Paste: Un1(-1.3,1.3) Un2(-1.3,-1.3) Un3(1.3,1.3) Un4(1.3,-1.3)
F.SilkS:
  region: -4.61,4.61 -4.85,4.94 -4.37,4.94
  lines w0.254: -4.61,-4.135 -4.61,-4.61 -4.135,-4.61 ; -4.61,4.135 -4.61,4.37 ; -4.31,4.61 -4.135,4.61 ; 4.135,-4.61 4.61,-4.61 4.61,-4.135 ; 4.135,4.61 4.61,4.61 4.61,4.135
Top Assembly:
  region: 4.5,-4.5 -4.5,-4.5 -4.5,3.5 -3.5,4.5 4.5,4.5
  text "'.Designator'" at -4.047,-0.84 h1
Top Courtyard:
  lines w0.254: -5.1,-4.13 -4.75,-4.13 -4.75,-4.75 -4.13,-4.75 -4.13,-5.1 4.13,-5.1 4.13,-4.75 4.75,-4.75 4.75,-4.13 5.1,-4.13 5.1,4.13 4.75,4.13 4.75,4.75 4.13,4.75 4.13,5.1 -4.13,5.1 -4.13,4.75 -4.75,4.75 -4.75,4.13 -5.1,4.13 -5.1,-4.13
Top Designator:
  text ".Designator" at -7.618,-0.508 h1.52